# EAGLE library part ATM90E36A-AU-Y (library Labops_Lib_AH)
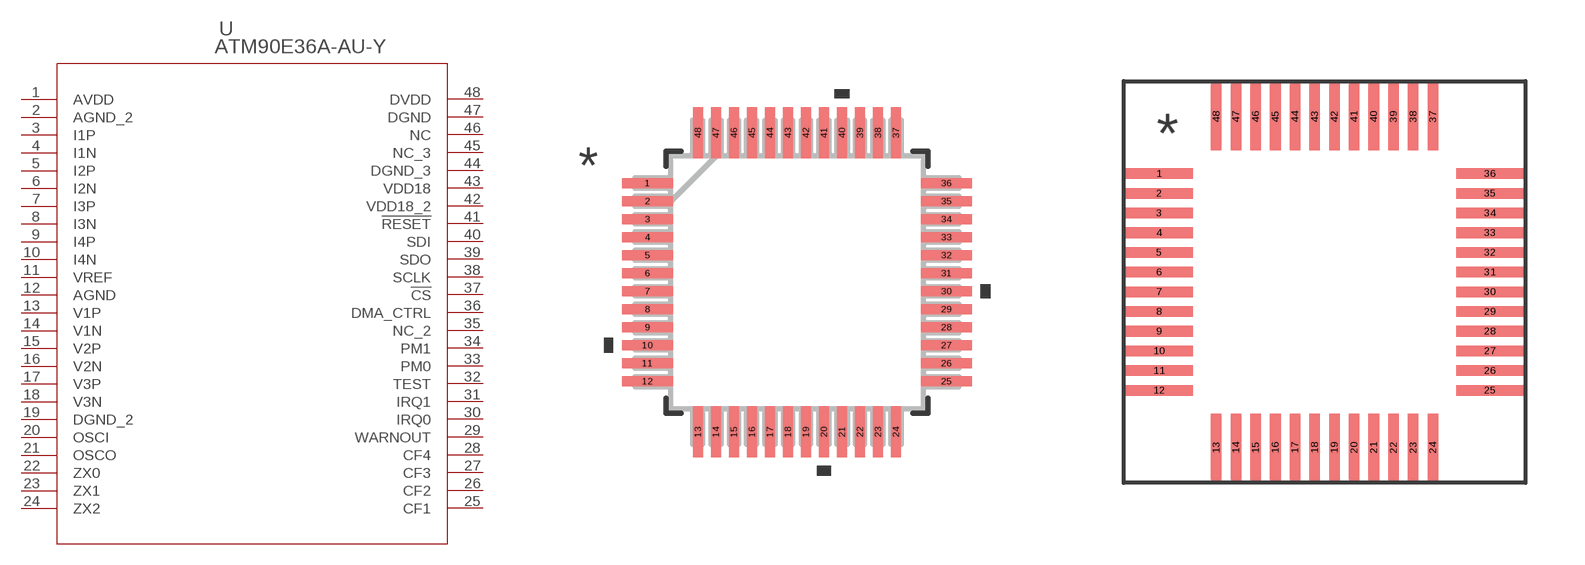
[diagram p20: symbol with the pads of TQFP48; footprints TQFP48, TQFP48-M]

Designator prefix U

## ATM90E36A-AU-Y (MANUFACTURER_PART_NUMBER: ATM90E36AAUY; VENDOR: Atmel)  [TQFP48]
1  AVDD  pwr
2  AGND_2  pwr
3  I1P  in
4  I1N  in
5  I2P  in
6  I2N  in
7  I3P  in
8  I3N  in
9  I4P  in
10  I4N  in
11  VREF  out
12  AGND  pwr
13  V1P  in
14  V1N  in
15  V2P  in
16  V2N  in
17  V3P  in
18  V3N  in
19  DGND_2  pwr
20  OSCI  in
21  OSCO  out
22  ZX0  out
23  ZX1  out
24  ZX2  out
25  CF1  out
26  CF2  out
27  CF3  out
28  CF4  out
29  WARNOUT  out
30  IRQ0  out
31  IRQ1  out
32  TEST  in
33  PM0  in
34  PM1  in
35  NC_2  nc
36  DMA_CTRL  in
37  !CS
38  SCLK
39  SDO
40  SDI
41  !RESET  in
42  VDD18_2  pwr
43  VDD18  pwr
44  DGND_3  pwr
45  NC_3  nc
46  NC  nc
47  DGND  pwr
48  DVDD  pwr

## ATM90E36A-AU-YTQFP48-M (MANUFACTURER_PART_NUMBER: ATM90E36AAUY; VENDOR: Atmel)  [TQFP48-M]
Pads as for TQFP48

## ATM90E36A-AU-YTQFP48-L (MANUFACTURER_PART_NUMBER: ATM90E36AAUY; VENDOR: Atmel)  [TQFP48-L]
Pads as for TQFP48

## Footprint TQFP48 (pad centres in mm)
smd 1.411 x 0.27: 1 -4.15,2.75; 2 -4.15,2.25; 3 -4.15,1.75; 4 -4.15,1.25; 5 -4.15,0.75; 6 -4.15,0.25; 7 -4.15,-0.25; 8 -4.15,-0.75; 9 -4.15,-1.25; 10 -4.15,-1.75; 11 -4.15,-2.25; 12 -4.15,-2.75; 25 4.15,-2.75; 26 4.15,-2.25; 27 4.15,-1.75; 28 4.15,-1.25; 29 4.15,-0.75; 30 4.15,-0.25; 31 4.15,0.25; 32 4.15,0.75; 33 4.15,1.25; 34 4.15,1.75; 35 4.15,2.25; 36 4.15,2.75
smd 0.27 x 1.411: 13 -2.75,-4.15; 14 -2.25,-4.15; 15 -1.75,-4.15; 16 -1.25,-4.15; 17 -0.75,-4.15; 18 -0.25,-4.15; 19 0.25,-4.15; 20 0.75,-4.15; 21 1.25,-4.15; 22 1.75,-4.15; 23 2.25,-4.15; 24 2.75,-4.15; 37 2.75,4.15; 38 2.25,4.15; 39 1.75,4.15; 40 1.25,4.15; 41 0.75,4.15; 42 0.25,4.15; 43 -0.25,4.15; 44 -0.75,4.15; 45 -1.25,4.15; 46 -1.75,4.15; 47 -2.25,4.15; 48 -2.75,4.15

## Footprint TQFP48-M (pad centres in mm)
smd 1.716 x 0.27: 1 -4.201,2.75; 2 -4.201,2.25; 3 -4.201,1.75; 4 -4.201,1.25; 5 -4.201,0.75; 6 -4.201,0.25; 7 -4.201,-0.25; 8 -4.201,-0.75; 9 -4.201,-1.25; 10 -4.201,-1.75; 11 -4.201,-2.25; 12 -4.201,-2.75; 25 4.201,-2.75; 26 4.201,-2.25; 27 4.201,-1.75; 28 4.201,-1.25; 29 4.201,-0.75; 30 4.201,-0.25; 31 4.201,0.25; 32 4.201,0.75; 33 4.201,1.25; 34 4.201,1.75; 35 4.201,2.25; 36 4.201,2.75
smd 0.27 x 1.716: 13 -2.75,-4.201; 14 -2.25,-4.201; 15 -1.75,-4.201; 16 -1.25,-4.201; 17 -0.75,-4.201; 18 -0.25,-4.201; 19 0.25,-4.201; 20 0.75,-4.201; 21 1.25,-4.201; 22 1.75,-4.201; 23 2.25,-4.201; 24 2.75,-4.201; 37 2.75,4.201; 38 2.25,4.201; 39 1.75,4.201; 40 1.25,4.201; 41 0.75,4.201; 42 0.25,4.201; 43 -0.25,4.201; 44 -0.75,4.201; 45 -1.25,4.201; 46 -1.75,4.201; 47 -2.25,4.201; 48 -2.75,4.201

## Footprint TQFP48-L (pad centres in mm)
smd 1.106 x 0.27: 1 -4.099,2.75; 2 -4.099,2.25; 3 -4.099,1.75; 4 -4.099,1.25; 5 -4.099,0.75; 6 -4.099,0.25; 7 -4.099,-0.25; 8 -4.099,-0.75; 9 -4.099,-1.25; 10 -4.099,-1.75; 11 -4.099,-2.25; 12 -4.099,-2.75; 25 4.099,-2.75; 26 4.099,-2.25; 27 4.099,-1.75; 28 4.099,-1.25; 29 4.099,-0.75; 30 4.099,-0.25; 31 4.099,0.25; 32 4.099,0.75; 33 4.099,1.25; 34 4.099,1.75; 35 4.099,2.25; 36 4.099,2.75
smd 0.27 x 1.106: 13 -2.75,-4.099; 14 -2.25,-4.099; 15 -1.75,-4.099; 16 -1.25,-4.099; 17 -0.75,-4.099; 18 -0.25,-4.099; 19 0.25,-4.099; 20 0.75,-4.099; 21 1.25,-4.099; 22 1.75,-4.099; 23 2.25,-4.099; 24 2.75,-4.099; 37 2.75,4.099; 38 2.25,4.099; 39 1.75,4.099; 40 1.25,4.099; 41 0.75,4.099; 42 0.25,4.099; 43 -0.25,4.099; 44 -0.75,4.099; 45 -1.25,4.099; 46 -1.75,4.099; 47 -2.25,4.099; 48 -2.75,4.099